# EAGLE library part J07 (library tidyeagle)
7 Pin Header 0.1" (2.54mm) spacing.
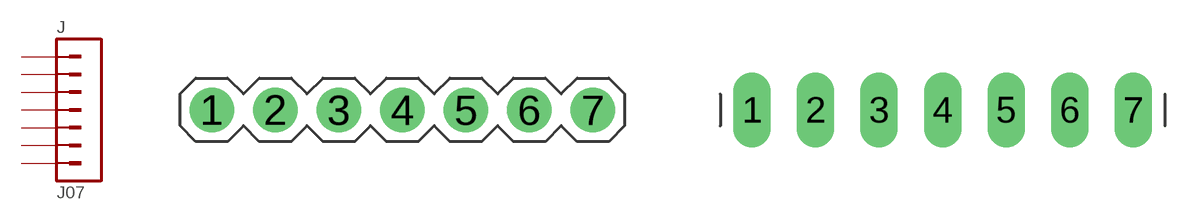
[diagram p10: symbol with the pads of J07; footprints J07, J07-LONG]

Designator prefix J

## J07-ROUND  [J07]
1  1
2  2
3  3
4  4
5  5
6  6
7  7

## J07-LONG  [J07-LONG]
Pads as for J07

## J07-NOSILK  [J07-NOSILK]
Pads as for J07

## J07-ROUND-POL  [J07-POL]
Pads as for J07

## J07-SATA  [J07-SATA]
Pads as for J07

## Footprint J07 (pad centres in mm)
drill 1 pad 1.778: 1 0,0; 2 2.54,0; 3 5.08,0; 4 7.62,0; 5 10.16,0; 6 12.7,0; 7 15.24,0

## Footprint J07-LONG (pad centres in mm)
drill 1 long: 1 0,0; 2 2.54,0; 3 5.08,0; 4 7.62,0; 5 10.16,0; 6 12.7,0; 7 15.24,0

## Footprint J07-NOSILK (pad centres in mm)
drill 1 pad 1.778: 1 0,0; 2 2.54,0; 3 5.08,0; 4 7.62,0; 5 10.16,0; 6 12.7,0; 7 15.24,0

## Footprint J07-POL (pad centres in mm)
drill 1 pad 1.778 square: 1 0,0
drill 1 pad 1.778: 2 2.54,0; 3 5.08,0; 4 7.62,0; 5 10.16,0; 6 12.7,0; 7 15.24,0

## Footprint J07-SATA (pad centres in mm)
Molex SATA connector, 7 pin. Datasheet: Technical Drawing <http://www.farnell.com/cad/1465351.pdf> Farnell Part Number: 1519801 <http://uk.farnell.com/molex/47155-4001/header-sata-vertical-1-27mm-7way/dp/1519801> This part provides an easy and tidy way of connecting printed circuit boards together using widely available connectors and leads. Mark "Not SATA" or similar to avoid confusion with an acutal SATA data port.
drill 0.5: 1 3.81,-1; 2 2.54,0; 3 1.27,0; 4 0,-1; 5 -1.27,0; 6 -2.54,0; 7 -3.81,-1
drill 1.35: PEG1 6.48,-0.5; PEG2 -6.48,-0.5